# Altium integrated library Jumper.IntLib: 1 symbol
Pins are listed as number, name and electrical type; pins without a type are passive.

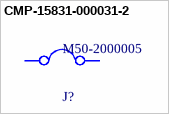
[diagram p0: symbol CMP-15831-000031-2]

## CMP-15831-000031-2
designator J?, comment M50-2000005
CONN SHUNT 1.27MM BLACK W/HANDLE; Voltage Rating: 500V; Number of Positions: 2; Contact Resistance: 20mR; Current Rating: 1A; Insulation Resistance: 1R; Number of Rows: 1; Height: 0.217inch; Contact Material: Copper Alloy; Max Operating Temperature: 105°C; Flammability Rating: UL94 V-0; RoHS Compliant: Yes; Orientation: Straight; Min Operating Temperature: -40°C; Contact Plating: Gold; Housing Material: PBT; Depth: 5.5mm; Packaging: Bulk; Number of Contacts: 2; Length: 2.5mm; Max Current Rating: 1A; Package Quantity: 1000; Series: Archer M50; Color: Black; Reach SVHC Compliant: Yes; Pitch: 1.27mm; Housing Color: Blue
footprint FP-M50-2000005-MFG